# EAGLE library part AMPEL-R-Y-G (library AMPEL)
Ampel -R-Y-G Reichelt:MEN 1881.8720 Farnell:1215781
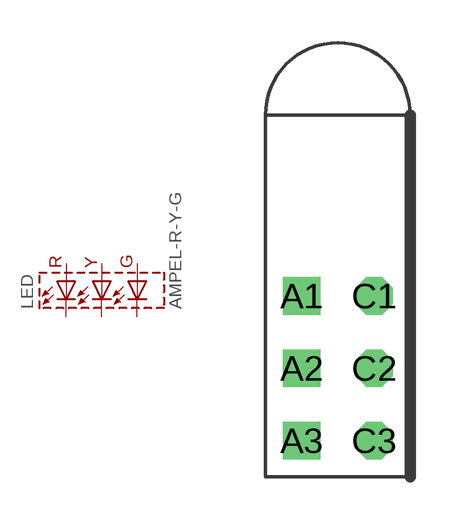
[diagram p0: symbol with the pads of AMPEL-R-Y-G; footprint AMPEL-R-Y-G]

Designator prefix LED

## AMPEL-R-Y-G  [AMPEL-R-Y-G]
A1  A1  pas
A2  A2  pas
A3  A3  pas
C1  C1  pas
C2  C2  pas
C3  C3  pas

## Footprint AMPEL-R-Y-G (pad centres in mm)
Ampel-R-Y-G Reichelt:MEN 1881.8720 Farnell:1215781
drill 0.813 square: A1 -1.27,2.54; A2 -1.27,0; A3 -1.27,-2.54
drill 0.813 octagon: C1 1.27,2.54; C2 1.27,0; C3 1.27,-2.54